# Altium schematic symbol library ON Semi JFETs.SchLib: 93 symbols (part 1 of 2)
Pins are listed as number, name and electrical type; pins without a type are passive.

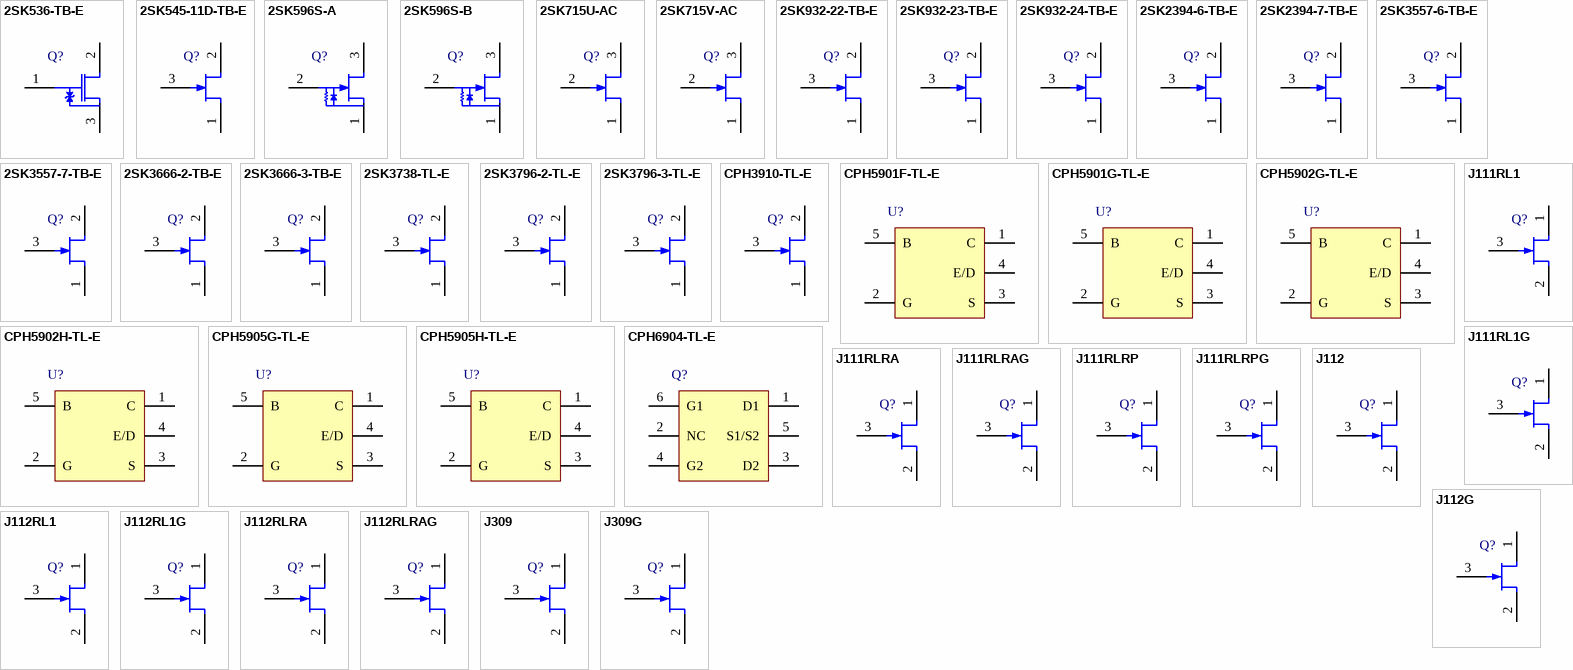
[diagram p0: symbols 2SK536-TB-E to J309G]

## 2SK536-TB-E
designator Q?
N-Channel MOSFET, 50 V, 100 mA, Single, 3-Pin CP, Pb-Free, Tape and Reel; Manufacturer: On Semiconductor; PartNumber: 2SK536-TB-E; Channel Polarity: N Channel; IDSS Max (uA): 1; PackageReference: CP-3-318AN_A; PackageDescription: 3-Pin Small Outline Transistor, Body 2.9 x 1.5 mm, Pitch 0.95 mm; Supplier 1: Digi-Key; Supplier Part Number 1: 869-1110-2-ND; Supplier 2: Digi-Key; Supplier Part Number 2: 869-1110-1-ND; Supplier 3: Digi-Key; Supplier Part Number 3: 869-1110-6-ND; Supplier 4: Newark; Supplier Part Number 4: 60W2041; Supplier 5: Mouser; Supplier Part Number 5: 863-2SK536-TB-E; Packing: Tape and Reel; RoHS: Pb-Free; Mounting Technology: Surface Mount; ComponentLink1Description: Manufacturer URL; ComponentLink1URL: http://www.onsemi.com/; ComponentLink2Description: Datasheet; ComponentLink2URL: http://www.onsemi.com/pub_link/Collateral/EN2550-D.PDF; ComponentLink3Description: Package Specification; ComponentLink3URL: http://www.onsemi.com/pub_link/Collateral/EN6619-D.PDF
footprint ONSC-CP-3-318AN_A_V (SOT23, 3-Leads, Body 2.9x1.5mm, Pitch 0.95mm)
pins: 1 G, 2 D, 3 S

## 2SK545-11D-TB-E
designator Q?
N-Channel JFET, 40 V, 55 to 95 uA, 0.10 mS, 3-Pin CP, Pb-Free, Tape and Reel; Manufacturer: On Semiconductor; PartNumber: 2SK545-11D-TB-E; Channel Polarity: N Channel; IDSS Max (uA): 95; IDSS Min (uA): 55; PackageReference: CP-3-318AN_A; PackageDescription: 3-Pin Small Outline Transistor, Body 2.9 x 1.5 mm, Pitch 0.95 mm; Supplier 1: Digi-Key; Supplier Part Number 1: 2SK545-11D-TB-E-ND; Supplier 2: Newark; Supplier Part Number 2: 07W7727; Supplier 3: Mouser; Supplier Part Number 3: 863-2SK545-11D-TB-E; Packing: Tape and Reel; RoHS: Pb-Free; Mounting Technology: Surface Mount; ComponentLink1Description: Manufacturer URL; ComponentLink1URL: http://www.onsemi.com/; ComponentLink2Description: Datasheet; ComponentLink2URL: http://www.onsemi.com/pub_link/Collateral/EN1789-D.PDF; ComponentLink3Description: Package Specification; ComponentLink3URL: http://www.onsemi.com/pub_link/Collateral/EN6619-D.PDF
footprint ONSC-CP-3-318AN_A_V (SOT23, 3-Leads, Body 2.9x1.5mm, Pitch 0.95mm)
pins: 1 S, 2 D, 3 G

## 2SK596S-A
designator Q?
N-Channel JFET, 20 V, 100 to 170 uA, 1 mS, 3-Pin SPA, Pb-Free, Tape and Reel; Manufacturer: On Semiconductor; PartNumber: 2SK596S-A; Channel Polarity: N Channel; IDSS Max (uA): 170; IDSS Min (uA): 100; PackageVersion: Rev. O, 02/2012; PackageReference: SPA-3-135AC; PackageDescription: 3-Pin Transistor Outline, Body 4 x 2.2 mm, Pitch 1.3 mm; Supplier 1: Newark; Supplier Part Number 1: 60W2042; Supplier 2: Mouser; Supplier Part Number 2: 863-2SK596S-A; Packing: Tape and Reel; RoHS: Pb-Free; Mounting Technology: Through Hole; ComponentLink1Description: Manufacturer URL; ComponentLink1URL: http://www.onsemi.com/; ComponentLink2Description: Datasheet; ComponentLink2URL: http://www.onsemi.com/pub/Collateral/ENA0944-D.PDF; ComponentLink3Description: Package Specification; ComponentLink3URL: http://www.onsemi.com/pub_link/Collateral/135AC.PDF
footprint ONSC-SPA-3-135AC_V (FM, 3-Leads, Body 4x2.2mm, Pitch 1.3mm)
pins: 1 S, 2 G, 3 D

## 2SK596S-B
designator Q?
N-Channel JFET, 20 V, 150 to 240 uA, 1 mS, 3-Pin SPA, Pb-Free, Bulk Bag; Manufacturer: On Semiconductor; PartNumber: 2SK596S-B; Channel Polarity: N Channel; IDSS Max (uA): 240; IDSS Min (uA): 150; PackageVersion: Rev. O, 02/2012; PackageReference: SPA-3-135AC; PackageDescription: 3-Pin Transistor Outline, Body 4 x 2.2 mm, Pitch 1.3 mm; Supplier 1: Digi-Key; Supplier Part Number 1: 2SK596S-B-ND; Supplier 2: Newark; Supplier Part Number 2: 07W7728; Supplier 3: Mouser; Supplier Part Number 3: 863-2SK596S-B; Packing: Bulk Bag; RoHS: Pb-Free; Mounting Technology: Through Hole; ComponentLink1Description: Manufacturer URL; ComponentLink1URL: http://www.onsemi.com/; ComponentLink2Description: Datasheet; ComponentLink2URL: http://www.onsemi.com/pub/Collateral/ENA0944-D.PDF; ComponentLink3Description: Package Specification; ComponentLink3URL: http://www.onsemi.com/pub_link/Collateral/135AC.PDF
footprint ONSC-SPA-3-135AC_V (FM, 3-Leads, Body 4x2.2mm, Pitch 1.3mm)
pins: 1 S, 2 G, 3 D

## 2SK715U-AC
designator Q?
N-Channel JFET, 15 V, 7.3 to 12 mA, 50 mS, 3-Pin SPA, Pb-Free, Fan-Fold; Manufacturer: On Semiconductor; PartNumber: 2SK715U-AC; Channel Polarity: N Channel; IDSS Max (uA): 12000; IDSS Min (uA): 7300; PackageVersion: Rev. O, 02/2012; PackageReference: SPA-3-135AC; PackageDescription: 3-Pin Transistor Outline, Body 4 x 2.2 mm, Pitch 1.3 mm; Supplier 1: Digi-Key; Supplier Part Number 1: 2SK715U-AC-ND; Supplier 2: Mouser; Supplier Part Number 2: 863-2SK715U-AC; Packing: Fan-Fold; RoHS: Pb-Free; Mounting Technology: Through Hole; ComponentLink1Description: Manufacturer URL; ComponentLink1URL: http://www.onsemi.com/; ComponentLink2Description: Datasheet; ComponentLink2URL: http://www.onsemi.com/pub/Collateral/EN2543-D.PDF; ComponentLink3Description: Package Specification; ComponentLink3URL: http://www.onsemi.com/pub_link/Collateral/135AC.PDF
footprint ONSC-SPA-3-135AC_V (FM, 3-Leads, Body 4x2.2mm, Pitch 1.3mm)
pins: 1 S, 2 G, 3 D

## 2SK715V-AC
designator Q?
N-Channel JFET, 15 V, 10 to 17 mA, 50 mS, 3-Pin SPA, Pb-Free, Fan-Fold; Manufacturer: On Semiconductor; PartNumber: 2SK715V-AC; Channel Polarity: N Channel; IDSS Max (uA): 17000; IDSS Min (uA): 10000; PackageVersion: Rev. O, 02/2012; PackageReference: SPA-3-135AC; PackageDescription: 3-Pin Transistor Outline, Body 4 x 2.2 mm, Pitch 1.3 mm; Supplier 1: Digi-Key; Supplier Part Number 1: 2SK715V-AC-ND; Supplier 2: Mouser; Supplier Part Number 2: 863-2SK715V-AC; Packing: Fan-Fold; RoHS: Pb-Free; Mounting Technology: Through Hole; ComponentLink1Description: Manufacturer URL; ComponentLink1URL: http://www.onsemi.com/; ComponentLink2Description: Datasheet; ComponentLink2URL: http://www.onsemi.com/pub/Collateral/EN2543-D.PDF; ComponentLink3Description: Package Specification; ComponentLink3URL: http://www.onsemi.com/pub_link/Collateral/135AC.PDF
footprint ONSC-SPA-3-135AC_V (FM, 3-Leads, Body 4x2.2mm, Pitch 1.3mm)
pins: 1 S, 2 G, 3 D

## 2SK932-22-TB-E
designator Q?
N-Channel JFET, 15 V, 7.3 to 12 mA, 50 mS, 3-Pin CP, Pb-Free, Tape and Reel; Manufacturer: On Semiconductor; PartNumber: 2SK932-22-TB-E; Channel Polarity: N Channel; IDSS Max (uA): 12000; IDSS Min (uA): 7300; PackageReference: CP-3-318AN_A; PackageDescription: 3-Pin Small Outline Transistor, Body 2.9 x 1.5 mm, Pitch 0.95 mm; Supplier 1: Digi-Key; Supplier Part Number 1: 2SK932-22-TB-E-ND; Supplier 2: Mouser; Supplier Part Number 2: 863-2SK932-22-TB-E; Packing: Tape and Reel; RoHS: Pb-Free; Mounting Technology: Surface Mount; ComponentLink1Description: Manufacturer URL; ComponentLink1URL: http://www.onsemi.com/; ComponentLink2Description: Datasheet; ComponentLink2URL: http://www.onsemi.com/pub/Collateral/EN2841-D.PDF; ComponentLink3Description: Package Specification; ComponentLink3URL: http://www.onsemi.com/pub_link/Collateral/EN6619-D.PDF
footprint ONSC-CP-3-318AN_A_V (SOT23, 3-Leads, Body 2.9x1.5mm, Pitch 0.95mm)
pins: 1 S, 2 D, 3 G

## 2SK932-23-TB-E
designator Q?
N-Channel JFET, 15 V, 10 to 17 mA, 50 mS, 3-Pin CP, Pb-Free, Tape and Reel; Manufacturer: On Semiconductor; PartNumber: 2SK932-23-TB-E; Channel Polarity: N Channel; IDSS Max (uA): 17000; IDSS Min (uA): 10000; PackageReference: CP-3-318AN_A; PackageDescription: 3-Pin Small Outline Transistor, Body 2.9 x 1.5 mm, Pitch 0.95 mm; Supplier 1: Digi-Key; Supplier Part Number 1: 2SK932-23-TB-E-ND; Supplier 2: Newark; Supplier Part Number 2: 07W7735; Supplier 3: Mouser; Supplier Part Number 3: 863-2SK932-23-TB-E; Packing: Tape and Reel; RoHS: Pb-Free; Mounting Technology: Surface Mount; ComponentLink1Description: Manufacturer URL; ComponentLink1URL: http://www.onsemi.com/; ComponentLink2Description: Datasheet; ComponentLink2URL: http://www.onsemi.com/pub/Collateral/EN2841-D.PDF; ComponentLink3Description: Package Specification; ComponentLink3URL: http://www.onsemi.com/pub_link/Collateral/EN6619-D.PDF
footprint ONSC-CP-3-318AN_A_V (SOT23, 3-Leads, Body 2.9x1.5mm, Pitch 0.95mm)
pins: 1 S, 2 D, 3 G

## 2SK932-24-TB-E
designator Q?
N-Channel JFET, 15 V, 14.5 to 24 mA, 50 mS, 3-Pin CP, Pb-Free, Tape and Reel; Manufacturer: On Semiconductor; PartNumber: 2SK932-24-TB-E; Channel Polarity: N Channel; IDSS Max (uA): 24000; IDSS Min (uA): 14500; PackageReference: CP-3-318AN_A; PackageDescription: 3-Pin Small Outline Transistor, Body 2.9 x 1.5 mm, Pitch 0.95 mm; Supplier 1: Digi-Key; Supplier Part Number 1: 2SK932-24-TB-E-ND; Supplier 2: Mouser; Supplier Part Number 2: 863-2SK932-24-TB-E; Packing: Tape and Reel; RoHS: Pb-Free; Mounting Technology: Surface Mount; ComponentLink1Description: Manufacturer URL; ComponentLink1URL: http://www.onsemi.com/; ComponentLink2Description: Datasheet; ComponentLink2URL: http://www.onsemi.com/pub/Collateral/EN2841-D.PDF; ComponentLink3Description: Package Specification; ComponentLink3URL: http://www.onsemi.com/pub_link/Collateral/EN6619-D.PDF
footprint ONSC-CP-3-318AN_A_V (SOT23, 3-Leads, Body 2.9x1.5mm, Pitch 0.95mm)
pins: 1 S, 2 D, 3 G

## 2SK2394-6-TB-E
designator Q?
N-Channel JFET, 15 V, 10 to 20 mA, 38 mS, 3-Pin CP, Pb-Free, Tape and Reel; Manufacturer: On Semiconductor; PartNumber: 2SK2394-6-TB-E; Channel Polarity: N Channel; IDSS Max (uA): 20000; IDSS Min (uA): 10000; PackageReference: CP-3-318AN_A; PackageDescription: 3-Pin Small Outline Transistor, Body 2.9 x 1.5 mm, Pitch 0.95 mm; Supplier 1: Digi-Key; Supplier Part Number 1: 2SK2394-6-TB-E-ND; Supplier 2: Mouser; Supplier Part Number 2: 863-2SK2394-6-TB-E; Packing: Tape and Reel; RoHS: Pb-Free; Mounting Technology: Surface Mount; ComponentLink1Description: Manufacturer URL; ComponentLink1URL: http://www.onsemi.com/; ComponentLink2Description: Datasheet; ComponentLink2URL: http://www.onsemi.com/pub_link/Collateral/EN4839-D.PDF; ComponentLink3Description: Package Specification; ComponentLink3URL: http://www.onsemi.com/pub_link/Collateral/EN6619-D.PDF
footprint ONSC-CP-3-318AN_A_V (SOT23, 3-Leads, Body 2.9x1.5mm, Pitch 0.95mm)
pins: 1 S, 2 D, 3 G

## 2SK2394-7-TB-E
designator Q?
N-Channel JFET, 15 V, 16 to 32 mA, 38 mS, 3-Pin CP, Pb-Free, Tape and Reel; Manufacturer: On Semiconductor; PartNumber: 2SK2394-7-TB-E; Channel Polarity: N Channel; IDSS Max (uA): 32000; IDSS Min (uA): 16000; PackageReference: CP-3-318AN_A; PackageDescription: 3-Pin Small Outline Transistor, Body 2.9 x 1.5 mm, Pitch 0.95 mm; Supplier 1: Digi-Key; Supplier Part Number 1: 2SK2394-7-TB-E-ND; Supplier 2: Mouser; Supplier Part Number 2: 863-2SK2394-7-TB-E; Packing: Tape and Reel; RoHS: Pb-Free; Mounting Technology: Surface Mount; ComponentLink1Description: Manufacturer URL; ComponentLink1URL: http://www.onsemi.com/; ComponentLink2Description: Datasheet; ComponentLink2URL: http://www.onsemi.com/pub_link/Collateral/EN4839-D.PDF; ComponentLink3Description: Package Specification; ComponentLink3URL: http://www.onsemi.com/pub_link/Collateral/EN6619-D.PDF
footprint ONSC-CP-3-318AN_A_V (SOT23, 3-Leads, Body 2.9x1.5mm, Pitch 0.95mm)
pins: 1 S, 2 D, 3 G

## 2SK3557-6-TB-E
designator Q?
N-Channel JFET, 15 V, 10 to 20 mA, 35 mS, 3-Pin CP, Pb-Free, Tape and Reel; Manufacturer: On Semiconductor; PartNumber: 2SK3557-6-TB-E; Channel Polarity: N Channel; IDSS Max (uA): 20000; IDSS Min (uA): 10000; PackageReference: CP-3-318AN_A; PackageDescription: 3-Pin Small Outline Transistor, Body 2.9 x 1.5 mm, Pitch 0.95 mm; Supplier 1: Digi-Key; Supplier Part Number 1: 2SK3557-6-TB-EOSTR-ND; Supplier 2: Digi-Key; Supplier Part Number 2: 2SK3557-6-TB-EOSCT-ND; Supplier 3: Digi-Key; Supplier Part Number 3: 2SK3557-6-TB-EOSDKR-ND; Supplier 4: Mouser; Supplier Part Number 4: 863-2SK3557-6-TB-E; Packing: Tape and Reel; RoHS: Pb-Free; Mounting Technology: Surface Mount; ComponentLink1Description: Manufacturer URL; ComponentLink1URL: http://www.onsemi.com/; ComponentLink2Description: Datasheet; ComponentLink2URL: http://www.onsemi.com/pub_link/Collateral/2SK3557-D.PDF; ComponentLink3Description: Package Specification; ComponentLink3URL: http://www.onsemi.com/pub_link/Collateral/EN6619-D.PDF
footprint ONSC-CP-3-318AN_A_V (SOT23, 3-Leads, Body 2.9x1.5mm, Pitch 0.95mm)
pins: 1 S, 2 D, 3 G

## 2SK3557-7-TB-E
designator Q?
N-Channel JFET, 15 V, 16 to 32 mA, 35 mS, 3-Pin CP, Pb-Free, Tape and Reel; Manufacturer: On Semiconductor; PartNumber: 2SK3557-7-TB-E; Channel Polarity: N Channel; IDSS Max (uA): 32000; IDSS Min (uA): 16000; PackageReference: CP-3-318AN_A; PackageDescription: 3-Pin Small Outline Transistor, Body 2.9 x 1.5 mm, Pitch 0.95 mm; Supplier 1: Digi-Key; Supplier Part Number 1: 869-1106-2-ND; Supplier 2: Digi-Key; Supplier Part Number 2: 869-1106-1-ND; Supplier 3: Digi-Key; Supplier Part Number 3: 869-1106-6-ND; Supplier 4: Farnell; Supplier Part Number 4: 2317599; Supplier 5: Newark; Supplier Part Number 5: 52T9100; Supplier 6: Mouser; Supplier Part Number 6: 863-2SK3557-7-TB-E; Packing: Tape and Reel; RoHS: Pb-Free; Mounting Technology: Surface Mount; ComponentLink1Description: Manufacturer URL; ComponentLink1URL: http://www.onsemi.com/; ComponentLink2Description: Datasheet; ComponentLink2URL: http://www.onsemi.com/pub_link/Collateral/2SK3557-D.PDF; ComponentLink3Description: Package Specification; ComponentLink3URL: http://www.onsemi.com/pub_link/Collateral/EN6619-D.PDF
footprint ONSC-CP-3-318AN_A_V (SOT23, 3-Leads, Body 2.9x1.5mm, Pitch 0.95mm)
pins: 1 S, 2 D, 3 G

## 2SK3666-2-TB-E
designator Q?
N-Channel JFET, 30 V, 0.6 to 1.5 mA, 6.5 mS, 3-Pin CP, Pb-Free, Tape and Reel; Manufacturer: On Semiconductor; PartNumber: 2SK3666-2-TB-E; Channel Polarity: N Channel; IDSS Max (uA): 1500; IDSS Min (uA): 600; PackageReference: CP-3-318AN_A; PackageDescription: 3-Pin Small Outline Transistor, Body 2.9 x 1.5 mm, Pitch 0.95 mm; Supplier 1: Digi-Key; Supplier Part Number 1: 2SK3666-2-TB-E-ND; Supplier 2: Mouser; Supplier Part Number 2: 863-2SK3666-2-TB-E; Packing: Tape and Reel; RoHS: Pb-Free; Mounting Technology: Surface Mount; ComponentLink1Description: Manufacturer URL; ComponentLink1URL: http://www.onsemi.com/; ComponentLink2Description: Datasheet; ComponentLink2URL: http://www.onsemi.com/pub_link/Collateral/2SK3666-D.PDF; ComponentLink3Description: Package Specification; ComponentLink3URL: http://www.onsemi.com/pub_link/Collateral/EN6619-D.PDF
footprint ONSC-CP-3-318AN_A_V (SOT23, 3-Leads, Body 2.9x1.5mm, Pitch 0.95mm)
pins: 1 S, 2 D, 3 G

## 2SK3666-3-TB-E
designator Q?
N-Channel JFET, 30 V, 1.2 to 3 mA, 6.5 mS, 3-Pin CP, Pb-Free, Tape and Reel; Manufacturer: On Semiconductor; PartNumber: 2SK3666-3-TB-E; Channel Polarity: N Channel; IDSS Max (uA): 3000; IDSS Min (uA): 1200; PackageReference: CP-3-318AN_A; PackageDescription: 3-Pin Small Outline Transistor, Body 2.9 x 1.5 mm, Pitch 0.95 mm; Supplier 1: Digi-Key; Supplier Part Number 1: 869-1107-2-ND; Supplier 2: Digi-Key; Supplier Part Number 2: 869-1107-1-ND; Supplier 3: Digi-Key; Supplier Part Number 3: 869-1107-6-ND; Supplier 4: Newark; Supplier Part Number 4: 52T9102; Supplier 5: Mouser; Supplier Part Number 5: 863-2SK3666-3-TB-E; Packing: Tape and Reel; RoHS: Pb-Free; Mounting Technology: Surface Mount; ComponentLink1Description: Manufacturer URL; ComponentLink1URL: http://www.onsemi.com/; ComponentLink2Description: Datasheet; ComponentLink2URL: http://www.onsemi.com/pub_link/Collateral/2SK3666-D.PDF; ComponentLink3Description: Package Specification; ComponentLink3URL: http://www.onsemi.com/pub_link/Collateral/EN6619-D.PDF
footprint ONSC-CP-3-318AN_A_V (SOT23, 3-Leads, Body 2.9x1.5mm, Pitch 0.95mm)
pins: 1 S, 2 D, 3 G

## 2SK3738-TL-E
designator Q?
N-Channel JFET, 40 V, 50 to 130 uA, 0.13 mS, 3-Pin SMCP, Pb-Free, Tape and Reel; Manufacturer: On Semiconductor; PartNumber: 2SK3738-TL-E; Channel Polarity: N Channel; IDSS Max (uA): 130; IDSS Min (uA): 50; PackageReference: SMCP-3; PackageDescription: 3-Pin Small Outline Transistor, Body 1.6 x 0.8 mm, Pitch 0.5 mm; Supplier 1: Newark; Supplier Part Number 1: 60W2035; Supplier 2: Mouser; Supplier Part Number 2: 863-2SK3738-TL-E; Packing: Tape and Reel; RoHS: Pb-Free; Mounting Technology: Surface Mount; ComponentLink1Description: Manufacturer URL; ComponentLink1URL: http://www.onsemi.com/; ComponentLink2Description: Datasheet; ComponentLink2URL: http://www.onsemi.com/pub_link/Collateral/EN7671-D.PDF; ComponentLink3Description: Package Specification; ComponentLink3URL: http://www.onsemi.com/pub_link/Collateral/3LN01S-D.PDF
footprint ONSC-SMCP-3_V (SOT23, 3-Leads, Body 1.6x0.8mm, Pitch 0.5mm)
pins: 1 S, 2 D, 3 G

## 2SK3796-2-TL-E
designator Q?
N-Channel JFET, 30 V, 0.6 to 1.5 mA, 6.5 mS, 3-Pin SMCP, Pb-Free, Tape and Reel; Manufacturer: On Semiconductor; PartNumber: 2SK3796-2-TL-E; Channel Polarity: N Channel; IDSS Max (uA): 1500; IDSS Min (uA): 600; PackageReference: SMCP-3; PackageDescription: 3-Pin Small Outline Transistor, Body 1.6 x 0.8 mm, Pitch 0.5 mm; Supplier 1: Digi-Key; Supplier Part Number 1: 2SK3796-2-TL-E-ND; Supplier 2: Mouser; Supplier Part Number 2: 863-2SK3796-2-TL-E; Packing: Tape and Reel; RoHS: Pb-Free; Mounting Technology: Surface Mount; ComponentLink1Description: Manufacturer URL; ComponentLink1URL: http://www.onsemi.com/; ComponentLink2Description: Datasheet; ComponentLink2URL: http://www.onsemi.com/pub_link/Collateral/2SK3796-D.PDF; ComponentLink3Description: Package Specification; ComponentLink3URL: http://www.onsemi.com/pub_link/Collateral/3LN01S-D.PDF
footprint ONSC-SMCP-3_V (SOT23, 3-Leads, Body 1.6x0.8mm, Pitch 0.5mm)
pins: 1 S, 2 D, 3 G

## 2SK3796-3-TL-E
designator Q?
N-Channel JFET, 30 V, 1.2 to 3 mA, 6.5 mS, 3-Pin SMCP, Pb-Free, Tape and Reel; Manufacturer: On Semiconductor; PartNumber: 2SK3796-3-TL-E; Channel Polarity: N Channel; IDSS Max (uA): 3000; IDSS Min (uA): 1200; PackageReference: SMCP-3; PackageDescription: 3-Pin Small Outline Transistor, Body 1.6 x 0.8 mm, Pitch 0.5 mm; Supplier 1: Digi-Key; Supplier Part Number 1: 2SK3796-3-TL-E-ND; Supplier 2: Mouser; Supplier Part Number 2: 863-2SK3796-3-TL-E; Packing: Tape and Reel; RoHS: Pb-Free; Mounting Technology: Surface Mount; ComponentLink1Description: Manufacturer URL; ComponentLink1URL: http://www.onsemi.com/; ComponentLink2Description: Datasheet; ComponentLink2URL: http://www.onsemi.com/pub_link/Collateral/2SK3796-D.PDF; ComponentLink3Description: Package Specification; ComponentLink3URL: http://www.onsemi.com/pub_link/Collateral/3LN01S-D.PDF
footprint ONSC-SMCP-3_V (SOT23, 3-Leads, Body 1.6x0.8mm, Pitch 0.5mm)
pins: 1 S, 2 D, 3 G

## CPH3910-TL-E
designator Q?
N-Channel JFET, 25 V, 20 to 40 mA, 40 mS, 3-Pin CPH, Pb-Free, Tape and Reel; Manufacturer: On Semiconductor; PartNumber: CPH3910-TL-E; Channel Polarity: N Channel; IDSS Max (uA): 40000; IDSS Min (uA): 20000; PackageReference: CPH-3; PackageDescription: 3-Pin Small Outline Transistor, Body 2.9 x 1.6 mm, Pitch 0.95 mm; Supplier 1: Newark; Supplier Part Number 1: 56W5196; Supplier 2: Mouser; Supplier Part Number 2: 863-CPH3910-TL-E; Packing: Tape and Reel; RoHS: Pb-Free; Mounting Technology: Surface Mount; ComponentLink1Description: Manufacturer URL; ComponentLink1URL: http://www.onsemi.com/; ComponentLink2Description: Datasheet; ComponentLink2URL: http://www.onsemi.com/pub_link/Collateral/ENA1965-D.PDF; ComponentLink3Description: Package Specification; ComponentLink3URL: http://www.onsemi.com/pub_link/Collateral/50A02CH-D.PDF
footprint ONSC-CPH-3_V (SOT23, 3-Leads, Body 2.9x1.6mm, Pitch 0.95mm)
pins: 1 S, 2 D, 3 G

## CPH5901F-TL-E
designator U?
N-Channel JFET and NPN Bipolar Transistor, 15 V, 7.3 to 12 mA, 50 V, 150 mA, Composite Type, 5-Pin CPH, Pb-Free, Tape and Reel; Manufacturer: On Semiconductor; PartNumber: CPH5901F-TL-E; Channel Polarity: N Channel & NPN; IDSS Max (uA): 12000; IDSS Min (uA): 6000; PackageReference: CPH-5; PackageDescription: 5-Pin Small Outline Transistor, Body 2.9 x 1.6 mm, Pitch 0.95 mm; Supplier 1: Digi-Key; Supplier Part Number 1: CPH5901F-TL-E-ND; Supplier 2: Mouser; Supplier Part Number 2: 863-CPH5901F-TL-E; Packing: Tape and Reel; RoHS: Pb-Free; Mounting Technology: Surface Mount; ComponentLink1Description: Manufacturer URL; ComponentLink1URL: http://www.onsemi.com/; ComponentLink2Description: Datasheet; ComponentLink2URL: http://www.onsemi.com/pub_link/Collateral/CPH5901-D.PDF; ComponentLink3Description: Package Specification; ComponentLink3URL: http://www.onsemi.com/pub_link/Collateral/CPH5504-D.PDF
footprint ONSC-CPH-5_V (SOT23, 5-Leads, Body 2.9x1.6mm, Pitch 0.95mm)
pins: 1 C, 2 G, 3 S, 4 E/D, 5 B

## CPH5901G-TL-E
designator U?
N-Channel JFET and NPN Bipolar Transistor, 15 V, 10 to 20 mA, 50 V, 150 mA, Composite Type, 5-Pin CPH, Pb-Free, Tape and Reel; Manufacturer: On Semiconductor; PartNumber: CPH5901G-TL-E; Channel Polarity: N Channel & NPN; IDSS Max (uA): 20000; IDSS Min (uA): 10000; PackageReference: CPH-5; PackageDescription: 5-Pin Small Outline Transistor, Body 2.9 x 1.6 mm, Pitch 0.95 mm; Supplier 1: Digi-Key; Supplier Part Number 1: CPH5901G-TL-E-ND; Supplier 2: Mouser; Supplier Part Number 2: 863-CPH5901G-TL-E; Packing: Tape and Reel; RoHS: Pb-Free; Mounting Technology: Surface Mount; ComponentLink1Description: Manufacturer URL; ComponentLink1URL: http://www.onsemi.com/; ComponentLink2Description: Datasheet; ComponentLink2URL: http://www.onsemi.com/pub_link/Collateral/CPH5901-D.PDF; ComponentLink3Description: Package Specification; ComponentLink3URL: http://www.onsemi.com/pub_link/Collateral/CPH5504-D.PDF
footprint ONSC-CPH-5_V (SOT23, 5-Leads, Body 2.9x1.6mm, Pitch 0.95mm)
pins: 1 C, 2 G, 3 S, 4 E/D, 5 B

## CPH5902G-TL-E
designator U?
N-Channel JFET and NPN Bipolar Transistor, 15 V, 10 to 20 mA, 50 V, 150 mA, Composite Type, 5-Pin CPH, Pb-Free, Tape and Reel; Manufacturer: On Semiconductor; PartNumber: CPH5902G-TL-E; Channel Polarity: N Channel & NPN; IDSS Max (uA): 20000; IDSS Min (uA): 10000; PackageReference: CPH-5; PackageDescription: 5-Pin Small Outline Transistor, Body 2.9 x 1.6 mm, Pitch 0.95 mm; Supplier 1: Digi-Key; Supplier Part Number 1: CPH5902G-TL-E-ND; Supplier 2: Mouser; Supplier Part Number 2: 863-CPH5902G-TL-E; Packing: Tape and Reel; RoHS: Pb-Free; Mounting Technology: Surface Mount; ComponentLink1Description: Manufacturer URL; ComponentLink1URL: http://www.onsemi.com/; ComponentLink2Description: Datasheet; ComponentLink2URL: http://www.onsemi.com/pub_link/Collateral/CPH5902-D.PDF; ComponentLink3Description: Package Specification; ComponentLink3URL: http://www.onsemi.com/pub_link/Collateral/CPH5504-D.PDF
footprint ONSC-CPH-5_V (SOT23, 5-Leads, Body 2.9x1.6mm, Pitch 0.95mm)
pins: 1 C, 2 G, 3 S, 4 E/D, 5 B

## CPH5902H-TL-E
designator U?
N-Channel JFET and NPN Bipolar Transistor, 15 V, 16 to 32 mA, 50 V, 150 mA, Composite Type, 5-Pin CPH, Pb-Free, Tape and Reel; Manufacturer: On Semiconductor; PartNumber: CPH5902H-TL-E; Channel Polarity: N Channel & NPN; IDSS Max (uA): 32000; IDSS Min (uA): 16000; PackageReference: CPH-5; PackageDescription: 5-Pin Small Outline Transistor, Body 2.9 x 1.6 mm, Pitch 0.95 mm; Supplier 1: Digi-Key; Supplier Part Number 1: CPH5902H-TL-E-ND; Supplier 2: Mouser; Supplier Part Number 2: 863-CPH5902H-TL-E; Packing: Tape and Reel; RoHS: Pb-Free; Mounting Technology: Surface Mount; ComponentLink1Description: Manufacturer URL; ComponentLink1URL: http://www.onsemi.com/; ComponentLink2Description: Datasheet; ComponentLink2URL: http://www.onsemi.com/pub_link/Collateral/CPH5902-D.PDF; ComponentLink3Description: Package Specification; ComponentLink3URL: http://www.onsemi.com/pub_link/Collateral/CPH5504-D.PDF
footprint ONSC-CPH-5_V (SOT23, 5-Leads, Body 2.9x1.6mm, Pitch 0.95mm)
pins: 1 C, 2 G, 3 S, 4 E/D, 5 B

## CPH5905G-TL-E
designator U?
N-Channel JFET and NPN Bipolar Transistor, 15 V, 10 to 20 mA, 50 V, 150 mA, Composite Type, 5-Pin CPH, Pb-Free, Tape and Reel; Manufacturer: On Semiconductor; PartNumber: CPH5905G-TL-E; Channel Polarity: N Channel & NPN; IDSS Max (uA): 20000; IDSS Min (uA): 10000; PackageReference: CPH-5; PackageDescription: 5-Pin Small Outline Transistor, Body 2.9 x 1.6 mm, Pitch 0.95 mm; Supplier 1: Digi-Key; Supplier Part Number 1: 869-1135-2-ND; Supplier 2: Digi-Key; Supplier Part Number 2: 869-1135-1-ND; Supplier 3: Digi-Key; Supplier Part Number 3: 869-1135-6-ND; Supplier 4: Mouser; Supplier Part Number 4: 863-CPH5905G-TL-E; Packing: Tape and Reel; RoHS: Pb-Free; Mounting Technology: Surface Mount; ComponentLink1Description: Manufacturer URL; ComponentLink1URL: http://www.onsemi.com/; ComponentLink2Description: Datasheet; ComponentLink2URL: http://www.onsemi.com/pub_link/Collateral/CPH5905-D.PDF; ComponentLink3Description: Package Specification; ComponentLink3URL: http://www.onsemi.com/pub_link/Collateral/CPH5504-D.PDF
footprint ONSC-CPH-5_V (SOT23, 5-Leads, Body 2.9x1.6mm, Pitch 0.95mm)
pins: 1 C, 2 G, 3 S, 4 E/D, 5 B

## CPH5905H-TL-E
designator U?
N-Channel JFET and NPN Bipolar Transistor, 15 V, 16 to 32 mA, 50 V, 150 mA, Composite Type, 5-Pin CPH, Pb-Free, Tape and Reel; Manufacturer: On Semiconductor; PartNumber: CPH5905H-TL-E; Channel Polarity: N Channel & NPN; IDSS Max (uA): 32000; IDSS Min (uA): 16000; PackageReference: CPH-5; PackageDescription: 5-Pin Small Outline Transistor, Body 2.9 x 1.6 mm, Pitch 0.95 mm; Supplier 1: Digi-Key; Supplier Part Number 1: CPH5905H-TL-E-ND; Supplier 2: Mouser; Supplier Part Number 2: 863-CPH5905H-TL-E; Packing: Tape and Reel; RoHS: Pb-Free; Mounting Technology: Surface Mount; ComponentLink1Description: Manufacturer URL; ComponentLink1URL: http://www.onsemi.com/; ComponentLink2Description: Datasheet; ComponentLink2URL: http://www.onsemi.com/pub_link/Collateral/CPH5905-D.PDF; ComponentLink3Description: Package Specification; ComponentLink3URL: http://www.onsemi.com/pub_link/Collateral/CPH5504-D.PDF
footprint ONSC-CPH-5_V (SOT23, 5-Leads, Body 2.9x1.6mm, Pitch 0.95mm)
pins: 1 C, 2 G, 3 S, 4 E/D, 5 B

## CPH6904-TL-E
designator Q?
N-Channel JFET, 25 V, 20 to 40 mA, 40 mS, Dual, 6-Pin CPH, Pb-Free, Tape and Reel; Manufacturer: On Semiconductor; PartNumber: CPH6904-TL-E; Channel Polarity: N Channel; IDSS Max (uA): 40000; IDSS Min (uA): 20000; PackageReference: CPH-6; PackageDescription: 6-Pin Small Outline Transistor, Body 2.9 x 1.6 mm, Pitch 0.95 mm; Supplier 1: Digi-Key; Supplier Part Number 1: CPH6904-TL-E-ND; Supplier 2: Newark; Supplier Part Number 2: 07W6759; Supplier 3: Mouser; Supplier Part Number 3: 863-CPH6904-TL-E; Packing: Tape and Reel; RoHS: Pb-Free; Mounting Technology: Surface Mount; ComponentLink1Description: Manufacturer URL; ComponentLink1URL: http://www.onsemi.com/; ComponentLink2Description: Datasheet; ComponentLink2URL: http://www.onsemi.com/pub/Collateral/ENA1966-D.PDF; ComponentLink3Description: Package Specification; ComponentLink3URL: http://www.onsemi.com/pub_link/Collateral/CPH6001A-D.PDF
footprint ONSC-CPH-6_V (SOT23, 6-Leads, Body 2.9x1.6mm, Pitch 0.95mm)
pins: 1 D1, 2 NC, 3 D2, 4 G2, 5 S1/S2, 6 G1

## J111RL1
designator Q?
JFET Chopper Transistor, N-Channel - Depletion, 3-Pin TO-92, Tape and Reel; Manufacturer: On Semiconductor; PartNumber: J111RL1; Channel Polarity: N Channel; IDSS Min (uA): 20000; V(BR)GSS Min (V): 35; DatasheetVersion: Rev. 2; PackageVersion: Rev. AM; PackageReference: TO-92-3-29-11_AM_SL; PackageDescription: 3-Pin Transistor Outline, Body 4.825 x 3.685 mm, Pitch 1.27 mm; Supplier 1: Mouser; Supplier Part Number 1: 863-J111RL1; Packing: Tape and Reel; Mounting Technology: Through Hole; ComponentLink1Description: Manufacturer URL; ComponentLink1URL: http://www.onsemi.com/; ComponentLink2Description: Datasheet; ComponentLink2URL: http://www.onsemi.com/pub_link/Collateral/J111-D.PDF; ComponentLink3Description: Package Specification; ComponentLink3URL: http://www.onsemi.cn/pub_link/Collateral/2N6426-D.PDF
footprint ONSC-TO-92-3-29-11 (TO, 3-Leads, Body Dia 4.7mm, Pitch 1.27mm)
pins: 1 D, 2 S, 3 G

## J111RL1G
designator Q?
JFET Chopper Transistor, N-Channel - Depletion, 3-Pin TO-92, Pb-Free, Tape and Reel; Manufacturer: On Semiconductor; PartNumber: J111RL1G; Channel Polarity: N Channel; IDSS Min (uA): 20000; V(BR)GSS Min (V): 35; DatasheetVersion: Rev. 2; PackageVersion: Rev. AM; PackageReference: TO-92-3-29-11_AM_SL; PackageDescription: 3-Pin Transistor Outline, Body 4.825 x 3.685 mm, Pitch 1.27 mm; Supplier 1: Digi-Key; Supplier Part Number 1: J111RL1G-ND; Supplier 2: Mouser; Supplier Part Number 2: 863-J111RL1G; Packing: Tape and Reel; RoHS: Pb-Free; Mounting Technology: Through Hole; ComponentLink1Description: Manufacturer URL; ComponentLink1URL: http://www.onsemi.com/; ComponentLink2Description: Datasheet; ComponentLink2URL: http://www.onsemi.com/pub_link/Collateral/J111-D.PDF; ComponentLink3Description: Package Specification; ComponentLink3URL: http://www.onsemi.cn/pub_link/Collateral/2N6426-D.PDF
footprint ONSC-TO-92-3-29-11 (TO, 3-Leads, Body Dia 4.7mm, Pitch 1.27mm)
pins: 1 D, 2 S, 3 G

## J111RLRA
designator Q?
JFET Chopper Transistor, N-Channel - Depletion, 3-Pin TO-92, Tape and Reel; Manufacturer: On Semiconductor; PartNumber: J111RLRA; Channel Polarity: N Channel; IDSS Min (uA): 20000; V(BR)GSS Min (V): 35; DatasheetVersion: Rev. 2; PackageVersion: Rev. AM; PackageReference: TO-92-3-29-11_AM_SL; PackageDescription: 3-Pin Transistor Outline, Body 4.825 x 3.685 mm, Pitch 1.27 mm; Supplier 1: Mouser; Supplier Part Number 1: 863-J111RLRA; Packing: Tape and Reel; Mounting Technology: Through Hole; ComponentLink1Description: Manufacturer URL; ComponentLink1URL: http://www.onsemi.com/; ComponentLink2Description: Datasheet; ComponentLink2URL: http://www.onsemi.com/pub_link/Collateral/J111-D.PDF; ComponentLink3Description: Package Specification; ComponentLink3URL: http://www.onsemi.cn/pub_link/Collateral/2N6426-D.PDF
footprint ONSC-TO-92-3-29-11 (TO, 3-Leads, Body Dia 4.7mm, Pitch 1.27mm)
pins: 1 D, 2 S, 3 G

## J111RLRAG
designator Q?
JFET Chopper Transistor, N-Channel - Depletion, 3-Pin TO-92, Pb-Free, Tape and Reel; Manufacturer: On Semiconductor; PartNumber: J111RLRAG; Channel Polarity: N Channel; IDSS Min (uA): 20000; V(BR)GSS Min (V): 35; DatasheetVersion: Rev. 2; PackageVersion: Rev. AM; PackageReference: TO-92-3-29-11_AM_SL; PackageDescription: 3-Pin Transistor Outline, Body 4.825 x 3.685 mm, Pitch 1.27 mm; Supplier 1: Digi-Key; Supplier Part Number 1: J111RLRAG-ND; Supplier 2: Mouser; Supplier Part Number 2: 863-J111RLRAG; Packing: Tape and Reel; RoHS: Pb-Free; Mounting Technology: Through Hole; ComponentLink1Description: Manufacturer URL; ComponentLink1URL: http://www.onsemi.com/; ComponentLink2Description: Datasheet; ComponentLink2URL: http://www.onsemi.com/pub_link/Collateral/J111-D.PDF; ComponentLink3Description: Package Specification; ComponentLink3URL: http://www.onsemi.cn/pub_link/Collateral/2N6426-D.PDF
footprint ONSC-TO-92-3-29-11 (TO, 3-Leads, Body Dia 4.7mm, Pitch 1.27mm)
pins: 1 D, 2 S, 3 G

## J111RLRP
designator Q?
JFET Chopper Transistor, N-Channel - Depletion, 3-Pin TO-92, Tape and Reel; Manufacturer: On Semiconductor; PartNumber: J111RLRP; Channel Polarity: N Channel; IDSS Min (uA): 20000; V(BR)GSS Min (V): 35; DatasheetVersion: Rev. 2; PackageVersion: Rev. AM; PackageReference: TO-92-3-29-11_AM_SL; PackageDescription: 3-Pin Transistor Outline, Body 4.825 x 3.685 mm, Pitch 1.27 mm; Supplier 1: Mouser; Supplier Part Number 1: 863-J111RLRP; Packing: Tape and Reel; Mounting Technology: Through Hole; ComponentLink1Description: Manufacturer URL; ComponentLink1URL: http://www.onsemi.com/; ComponentLink2Description: Datasheet; ComponentLink2URL: http://www.onsemi.com/pub_link/Collateral/J111-D.PDF; ComponentLink3Description: Package Specification; ComponentLink3URL: http://www.onsemi.cn/pub_link/Collateral/2N6426-D.PDF
footprint ONSC-TO-92-3-29-11 (TO, 3-Leads, Body Dia 4.7mm, Pitch 1.27mm)
pins: 1 D, 2 S, 3 G

## J111RLRPG
designator Q?
JFET Chopper Transistor, N-Channel - Depletion, 3-Pin TO-92, Pb-Free, Tape and Reel; Manufacturer: On Semiconductor; PartNumber: J111RLRPG; Channel Polarity: N Channel; IDSS Min (uA): 20000; V(BR)GSS Min (V): 35; DatasheetVersion: Rev. 2; PackageVersion: Rev. AM; PackageReference: TO-92-3-29-11_AM_SL; PackageDescription: 3-Pin Transistor Outline, Body 4.825 x 3.685 mm, Pitch 1.27 mm; Supplier 1: Digi-Key; Supplier Part Number 1: J111RLRPG-ND; Supplier 2: Mouser; Supplier Part Number 2: 863-J111RLRPG; Packing: Tape and Reel; RoHS: Pb-Free; Mounting Technology: Through Hole; ComponentLink1Description: Manufacturer URL; ComponentLink1URL: http://www.onsemi.com/; ComponentLink2Description: Datasheet; ComponentLink2URL: http://www.onsemi.com/pub_link/Collateral/J111-D.PDF; ComponentLink3Description: Package Specification; ComponentLink3URL: http://www.onsemi.cn/pub_link/Collateral/2N6426-D.PDF
footprint ONSC-TO-92-3-29-11 (TO, 3-Leads, Body Dia 4.7mm, Pitch 1.27mm)
pins: 1 D, 2 S, 3 G

## J112
designator Q?
JFET Chopper Transistor, N-Channel - Depletion, 3-Pin TO-92, Bulk Box; Manufacturer: On Semiconductor; PartNumber: J112; Channel Polarity: N Channel; V(BR)GSS Min (V): 35; DatasheetVersion: Rev. 2; PackageVersion: Rev. AM; PackageReference: TO-92-3-29-11_AM_SL; PackageDescription: 3-Pin Transistor Outline, Body 4.825 x 3.685 mm, Pitch 1.27 mm; Packing: Bulk Box; Mounting Technology: Through Hole; ComponentLink1Description: Manufacturer URL; ComponentLink1URL: http://www.onsemi.com/; ComponentLink2Description: Datasheet; ComponentLink2URL: http://www.onsemi.com/pub_link/Collateral/J111-D.PDF; ComponentLink3Description: Package Specification; ComponentLink3URL: http://www.onsemi.cn/pub_link/Collateral/2N6426-D.PDF
footprint ONSC-TO-92-3-29-11 (TO, 3-Leads, Body Dia 4.7mm, Pitch 1.27mm)
pins: 1 D, 2 S, 3 G

## J112G
designator Q?
JFET Chopper Transistor, N-Channel - Depletion, 3-Pin TO-92, Pb-Free, Bulk Box; Manufacturer: On Semiconductor; PartNumber: J112G; Channel Polarity: N Channel; V(BR)GSS Min (V): 35; DatasheetVersion: Rev. 2; PackageVersion: Rev. AM; PackageReference: TO-92-3-29-11_AM_SL; PackageDescription: 3-Pin Transistor Outline, Body 4.825 x 3.685 mm, Pitch 1.27 mm; Supplier 1: Digi-Key; Supplier Part Number 1: J112GOS-ND; Supplier 2: Newark; Supplier Part Number 2: 26K3591; Supplier 3: Mouser; Supplier Part Number 3: 863-J112G; Packing: Bulk Box; RoHS: Pb-Free; Mounting Technology: Through Hole; ComponentLink1Description: Manufacturer URL; ComponentLink1URL: http://www.onsemi.com/; ComponentLink2Description: Datasheet; ComponentLink2URL: http://www.onsemi.com/pub_link/Collateral/J111-D.PDF; ComponentLink3Description: Package Specification; ComponentLink3URL: http://www.onsemi.cn/pub_link/Collateral/2N6426-D.PDF
footprint ONSC-TO-92-3-29-11 (TO, 3-Leads, Body Dia 4.7mm, Pitch 1.27mm)
pins: 1 D, 2 S, 3 G

## J112RL1
designator Q?
JFET Chopper Transistor, N-Channel - Depletion, 3-Pin TO-92, Tape and Reel; Manufacturer: On Semiconductor; PartNumber: J112RL1; Channel Polarity: N Channel; V(BR)GSS Min (V): 35; DatasheetVersion: Rev. 2; PackageVersion: Rev. AM; PackageReference: TO-92-3-29-11_AM_SL; PackageDescription: 3-Pin Transistor Outline, Body 4.825 x 3.685 mm, Pitch 1.27 mm; Supplier 1: Digi-Key; Supplier Part Number 1: J112RL1-ND; Supplier 2: Mouser; Supplier Part Number 2: 863-J112RL1; Packing: Tape and Reel; Mounting Technology: Through Hole; ComponentLink1Description: Manufacturer URL; ComponentLink1URL: http://www.onsemi.com/; ComponentLink2Description: Datasheet; ComponentLink2URL: http://www.onsemi.com/pub_link/Collateral/J111-D.PDF; ComponentLink3Description: Package Specification; ComponentLink3URL: http://www.onsemi.cn/pub_link/Collateral/2N6426-D.PDF
footprint ONSC-TO-92-3-29-11 (TO, 3-Leads, Body Dia 4.7mm, Pitch 1.27mm)
pins: 1 D, 2 S, 3 G

## J112RL1G
designator Q?
JFET Chopper Transistor, N-Channel - Depletion, 3-Pin TO-92, Pb-Free, Tape and Reel; Manufacturer: On Semiconductor; PartNumber: J112RL1G; Channel Polarity: N Channel; V(BR)GSS Min (V): 35; DatasheetVersion: Rev. 2; PackageVersion: Rev. AM; PackageReference: TO-92-3-29-11_AM_SL; PackageDescription: 3-Pin Transistor Outline, Body 4.825 x 3.685 mm, Pitch 1.27 mm; Supplier 1: Digi-Key; Supplier Part Number 1: J112RL1G-ND; Supplier 2: Mouser; Supplier Part Number 2: 863-J112RL1G; Packing: Tape and Reel; RoHS: Pb-Free; Mounting Technology: Through Hole; ComponentLink1Description: Manufacturer URL; ComponentLink1URL: http://www.onsemi.com/; ComponentLink2Description: Datasheet; ComponentLink2URL: http://www.onsemi.com/pub_link/Collateral/J111-D.PDF; ComponentLink3Description: Package Specification; ComponentLink3URL: http://www.onsemi.cn/pub_link/Collateral/2N6426-D.PDF
footprint ONSC-TO-92-3-29-11 (TO, 3-Leads, Body Dia 4.7mm, Pitch 1.27mm)
pins: 1 D, 2 S, 3 G

## J112RLRA
designator Q?
JFET Chopper Transistor, N-Channel - Depletion, 3-Pin TO-92, Tape and Reel; Manufacturer: On Semiconductor; PartNumber: J112RLRA; Channel Polarity: N Channel; V(BR)GSS Min (V): 35; DatasheetVersion: Rev. 2; PackageVersion: Rev. AM; PackageReference: TO-92-3-29-11_AM_SL; PackageDescription: 3-Pin Transistor Outline, Body 4.825 x 3.685 mm, Pitch 1.27 mm; Supplier 1: Digi-Key; Supplier Part Number 1: J112RLRA-ND; Packing: Tape and Reel; Mounting Technology: Through Hole; ComponentLink1Description: Manufacturer URL; ComponentLink1URL: http://www.onsemi.com/; ComponentLink2Description: Datasheet; ComponentLink2URL: http://www.onsemi.com/pub_link/Collateral/J111-D.PDF; ComponentLink3Description: Package Specification; ComponentLink3URL: http://www.onsemi.cn/pub_link/Collateral/2N6426-D.PDF
footprint ONSC-TO-92-3-29-11 (TO, 3-Leads, Body Dia 4.7mm, Pitch 1.27mm)
pins: 1 D, 2 S, 3 G

## J112RLRAG
designator Q?
JFET Chopper Transistor, N-Channel - Depletion, 3-Pin TO-92, Pb-Free, Tape and Reel; Manufacturer: On Semiconductor; PartNumber: J112RLRAG; Channel Polarity: N Channel; V(BR)GSS Min (V): 35; DatasheetVersion: Rev. 2; PackageVersion: Rev. AM; PackageReference: TO-92-3-29-11_AM_SL; PackageDescription: 3-Pin Transistor Outline, Body 4.825 x 3.685 mm, Pitch 1.27 mm; Supplier 1: Digi-Key; Supplier Part Number 1: J112RLRAGOSTR-ND; Supplier 2: Digi-Key; Supplier Part Number 2: J112RLRAGOSCT-ND; Supplier 3: Newark; Supplier Part Number 3: 41K9829; Supplier 4: Mouser; Supplier Part Number 4: 863-J112RLRAG; Packing: Tape and Reel; RoHS: Pb-Free; Mounting Technology: Through Hole; ComponentLink1Description: Manufacturer URL; ComponentLink1URL: http://www.onsemi.com/; ComponentLink2Description: Datasheet; ComponentLink2URL: http://www.onsemi.com/pub_link/Collateral/J111-D.PDF; ComponentLink3Description: Package Specification; ComponentLink3URL: http://www.onsemi.cn/pub_link/Collateral/2N6426-D.PDF
footprint ONSC-TO-92-3-29-11 (TO, 3-Leads, Body Dia 4.7mm, Pitch 1.27mm)
pins: 1 D, 2 S, 3 G

## J309
designator Q?
JFET VHF / UHF Amplifier, N-Channel - Depletion, 3-Pin TO-92, Bulk Box; Manufacturer: On Semiconductor; PartNumber: J309; Channel Polarity: N Channel; IDSS Max (uA): 30000; IDSS Min (uA): 12000; V(BR)GSS Min (V): 25; DatasheetVersion: Rev. 1; PackageVersion: Rev. AM; PackageReference: TO-92-3-29-11_AM_SL; PackageDescription: 3-Pin Transistor Outline, Body 4.825 x 3.685 mm, Pitch 1.27 mm; Supplier 1: Digi-Key; Supplier Part Number 1: J309OS-ND; Packing: Bulk Box; Mounting Technology: Through Hole; ComponentLink1Description: Manufacturer URL; ComponentLink1URL: http://www.onsemi.com/; ComponentLink2Description: Datasheet; ComponentLink2URL: http://www.onsemi.com/pub_link/Collateral/J309-D.PDF; ComponentLink3Description: Package Specification; ComponentLink3URL: http://www.onsemi.cn/pub_link/Collateral/2N6426-D.PDF
footprint ONSC-TO-92-3-29-11 (TO, 3-Leads, Body Dia 4.7mm, Pitch 1.27mm)
pins: 1 D, 2 S, 3 G

## J309G
designator Q?
JFET VHF / UHF Amplifier, N-Channel - Depletion, 3-Pin TO-92, Pb-Free, Bulk Box; Manufacturer: On Semiconductor; PartNumber: J309G; Channel Polarity: N Channel; IDSS Max (uA): 30000; IDSS Min (uA): 12000; V(BR)GSS Min (V): 25; DatasheetVersion: Rev. 1; PackageVersion: Rev. AM; PackageReference: TO-92-3-29-11_AM_SL; PackageDescription: 3-Pin Transistor Outline, Body 4.825 x 3.685 mm, Pitch 1.27 mm; Supplier 1: Digi-Key; Supplier Part Number 1: J309G-ND; Supplier 2: Mouser; Supplier Part Number 2: 863-J309G; Packing: Bulk Box; RoHS: Pb-Free; Mounting Technology: Through Hole; ComponentLink1Description: Manufacturer URL; ComponentLink1URL: http://www.onsemi.com/; ComponentLink2Description: Datasheet; ComponentLink2URL: http://www.onsemi.com/pub_link/Collateral/J309-D.PDF; ComponentLink3Description: Package Specification; ComponentLink3URL: http://www.onsemi.cn/pub_link/Collateral/2N6426-D.PDF
footprint ONSC-TO-92-3-29-11 (TO, 3-Leads, Body Dia 4.7mm, Pitch 1.27mm)
pins: 1 D, 2 S, 3 G

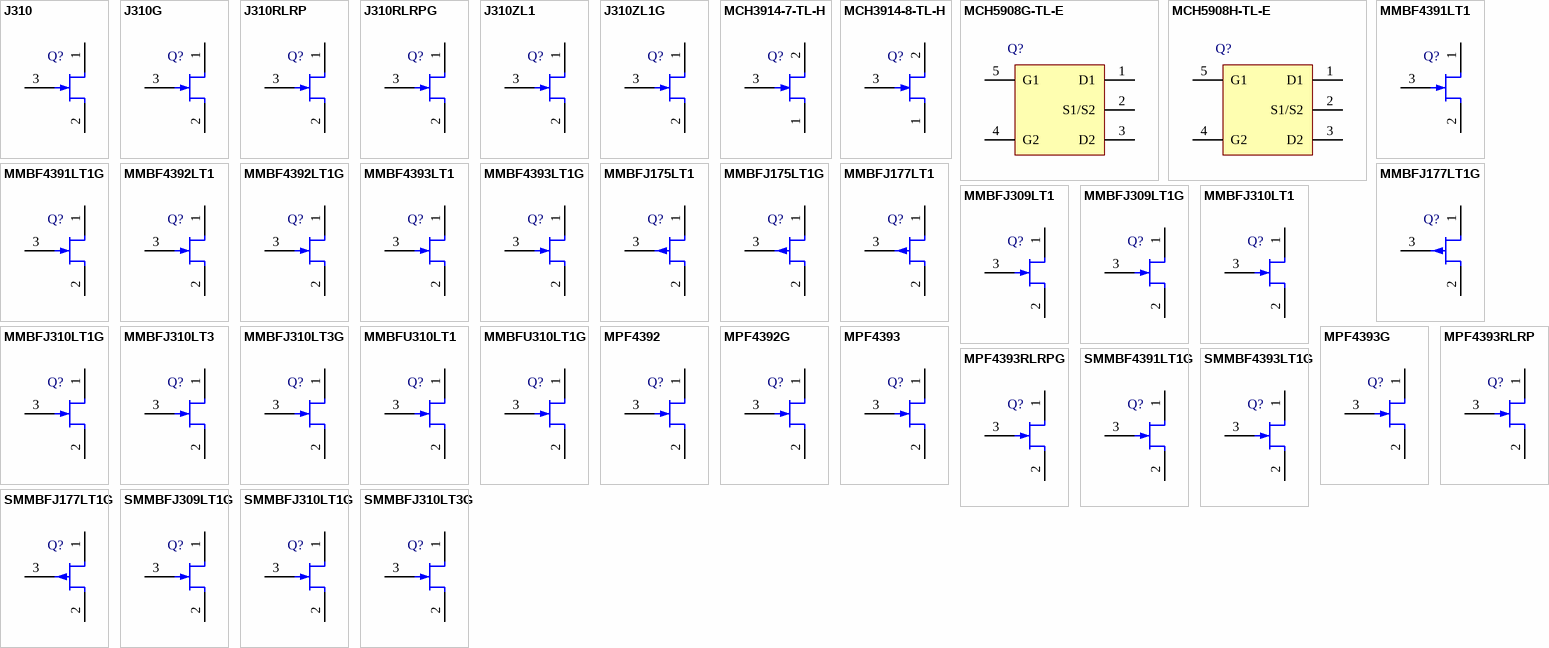
[diagram p1: symbols J310 to SMMBFJ310LT3G]

## J310
designator Q?
JFET VHF / UHF Amplifier, N-Channel - Depletion, 3-Pin TO-92, Bulk Box; Manufacturer: On Semiconductor; PartNumber: J310; Channel Polarity: N Channel; IDSS Max (uA): 60000; IDSS Min (uA): 24000; V(BR)GSS Min (V): 25; DatasheetVersion: Rev. 1; PackageVersion: Rev. AM; PackageReference: TO-92-3-29-11_AM_SL; PackageDescription: 3-Pin Transistor Outline, Body 4.825 x 3.685 mm, Pitch 1.27 mm; Supplier 1: Digi-Key; Supplier Part Number 1: J310OS-ND; Packing: Bulk Box; Mounting Technology: Through Hole; ComponentLink1Description: Manufacturer URL; ComponentLink1URL: http://www.onsemi.com/; ComponentLink2Description: Datasheet; ComponentLink2URL: http://www.onsemi.com/pub_link/Collateral/J309-D.PDF; ComponentLink3Description: Package Specification; ComponentLink3URL: http://www.onsemi.cn/pub_link/Collateral/2N6426-D.PDF
footprint ONSC-TO-92-3-29-11 (TO, 3-Leads, Body Dia 4.7mm, Pitch 1.27mm)
pins: 1 D, 2 S, 3 G

## J310G
designator Q?
JFET VHF / UHF Amplifier, N-Channel - Depletion, 3-Pin TO-92, Pb-Free, Bulk Box; Manufacturer: On Semiconductor; PartNumber: J310G; Channel Polarity: N Channel; IDSS Max (uA): 60000; IDSS Min (uA): 24000; V(BR)GSS Min (V): 25; DatasheetVersion: Rev. 1; PackageVersion: Rev. AM; PackageReference: TO-92-3-29-11_AM_SL; PackageDescription: 3-Pin Transistor Outline, Body 4.825 x 3.685 mm, Pitch 1.27 mm; Supplier 1: Digi-Key; Supplier Part Number 1: J310GOS-ND; Supplier 2: Farnell; Supplier Part Number 2: 1364035; Supplier 3: Newark; Supplier Part Number 3: 26K3593; Supplier 4: Mouser; Supplier Part Number 4: 863-J310G; Packing: Bulk Box; RoHS: Pb-Free; Mounting Technology: Through Hole; ComponentLink1Description: Manufacturer URL; ComponentLink1URL: http://www.onsemi.com/; ComponentLink2Description: Datasheet; ComponentLink2URL: http://www.onsemi.com/pub_link/Collateral/J309-D.PDF; ComponentLink3Description: Package Specification; ComponentLink3URL: http://www.onsemi.cn/pub_link/Collateral/2N6426-D.PDF
footprint ONSC-TO-92-3-29-11 (TO, 3-Leads, Body Dia 4.7mm, Pitch 1.27mm)
pins: 1 D, 2 S, 3 G

## J310RLRP
designator Q?
JFET VHF / UHF Amplifier, N-Channel - Depletion, 3-Pin TO-92, Fan-Fold; Manufacturer: On Semiconductor; PartNumber: J310RLRP; Channel Polarity: N Channel; IDSS Max (uA): 60000; IDSS Min (uA): 24000; V(BR)GSS Min (V): 25; DatasheetVersion: Rev. 1; PackageVersion: Rev. AM; PackageReference: TO-92-3-29-11_AM_SL; PackageDescription: 3-Pin Transistor Outline, Body 4.825 x 3.685 mm, Pitch 1.27 mm; Supplier 1: Digi-Key; Supplier Part Number 1: J310RLRP-ND; Supplier 2: Mouser; Supplier Part Number 2: 863-J310RLRP; Packing: Fan-Fold; Mounting Technology: Through Hole; ComponentLink1Description: Manufacturer URL; ComponentLink1URL: http://www.onsemi.com/; ComponentLink2Description: Datasheet; ComponentLink2URL: http://www.onsemi.com/pub_link/Collateral/J309-D.PDF; ComponentLink3Description: Package Specification; ComponentLink3URL: http://www.onsemi.cn/pub_link/Collateral/2N6426-D.PDF
footprint ONSC-TO-92-3-29-11 (TO, 3-Leads, Body Dia 4.7mm, Pitch 1.27mm)
pins: 1 D, 2 S, 3 G

## J310RLRPG
designator Q?
JFET VHF / UHF Amplifier, N-Channel - Depletion, 3-Pin TO-92, Pb-Free, Fan-Fold; Manufacturer: On Semiconductor; PartNumber: J310RLRPG; Channel Polarity: N Channel; IDSS Max (uA): 60000; IDSS Min (uA): 24000; V(BR)GSS Min (V): 25; DatasheetVersion: Rev. 1; PackageVersion: Rev. AM; PackageReference: TO-92-3-29-11_AM_SL; PackageDescription: 3-Pin Transistor Outline, Body 4.825 x 3.685 mm, Pitch 1.27 mm; Supplier 1: Digi-Key; Supplier Part Number 1: J310RLRPG-ND; Supplier 2: Mouser; Supplier Part Number 2: 863-J310RLRPG; Packing: Fan-Fold; RoHS: Pb-Free; Mounting Technology: Through Hole; ComponentLink1Description: Manufacturer URL; ComponentLink1URL: http://www.onsemi.com/; ComponentLink2Description: Datasheet; ComponentLink2URL: http://www.onsemi.com/pub_link/Collateral/J309-D.PDF; ComponentLink3Description: Package Specification; ComponentLink3URL: http://www.onsemi.cn/pub_link/Collateral/2N6426-D.PDF
footprint ONSC-TO-92-3-29-11 (TO, 3-Leads, Body Dia 4.7mm, Pitch 1.27mm)
pins: 1 D, 2 S, 3 G

## J310ZL1
designator Q?
JFET VHF / UHF Amplifier, N-Channel - Depletion, 3-Pin TO-92, Fan-Fold; Manufacturer: On Semiconductor; PartNumber: J310ZL1; Channel Polarity: N Channel; IDSS Max (uA): 60000; IDSS Min (uA): 24000; V(BR)GSS Min (V): 25; DatasheetVersion: Rev. 1; PackageVersion: Rev. AM; PackageReference: TO-92-3-29-11_AM_SL; PackageDescription: 3-Pin Transistor Outline, Body 4.825 x 3.685 mm, Pitch 1.27 mm; Supplier 1: Mouser; Supplier Part Number 1: 863-J310ZL1; Packing: Fan-Fold; Mounting Technology: Through Hole; ComponentLink1Description: Manufacturer URL; ComponentLink1URL: http://www.onsemi.com/; ComponentLink2Description: Datasheet; ComponentLink2URL: http://www.onsemi.com/pub_link/Collateral/J309-D.PDF; ComponentLink3Description: Package Specification; ComponentLink3URL: http://www.onsemi.cn/pub_link/Collateral/2N6426-D.PDF
footprint ONSC-TO-92-3-29-11 (TO, 3-Leads, Body Dia 4.7mm, Pitch 1.27mm)
pins: 1 D, 2 S, 3 G

## J310ZL1G
designator Q?
JFET VHF / UHF Amplifier, N-Channel - Depletion, 3-Pin TO-92, Pb-Free, Fan-Fold; Manufacturer: On Semiconductor; PartNumber: J310ZL1G; Channel Polarity: N Channel; IDSS Max (uA): 60000; IDSS Min (uA): 24000; V(BR)GSS Min (V): 25; DatasheetVersion: Rev. 1; PackageVersion: Rev. AM; PackageReference: TO-92-3-29-11_AM_SL; PackageDescription: 3-Pin Transistor Outline, Body 4.825 x 3.685 mm, Pitch 1.27 mm; Supplier 1: Digi-Key; Supplier Part Number 1: J310ZL1G-ND; Supplier 2: Mouser; Supplier Part Number 2: 863-J310ZL1G; Packing: Fan-Fold; RoHS: Pb-Free; Mounting Technology: Through Hole; ComponentLink1Description: Manufacturer URL; ComponentLink1URL: http://www.onsemi.com/; ComponentLink2Description: Datasheet; ComponentLink2URL: http://www.onsemi.com/pub_link/Collateral/J309-D.PDF; ComponentLink3Description: Package Specification; ComponentLink3URL: http://www.onsemi.cn/pub_link/Collateral/2N6426-D.PDF
footprint ONSC-TO-92-3-29-11 (TO, 3-Leads, Body Dia 4.7mm, Pitch 1.27mm)
pins: 1 D, 2 S, 3 G

## MCH3914-7-TL-H
designator Q?
N-Channel JFET, 15 V, 16 to 32 mA, 29 mS, 3-Pin MCPH, Pb-Free, Tape and Reel; Manufacturer: On Semiconductor; PartNumber: MCH3914-7-TL-H; Channel Polarity: N Channel; IDSS Max (uA): 32000; IDSS Min (uA): 16000; PackageReference: MCPH-3; PackageDescription: 3-Pin Small Outline Transistor, Body 2 x 1.6 mm, Pitch 0.65 mm; Supplier 1: Digi-Key; Supplier Part Number 1: MCH3914-7-TL-H-ND; Supplier 2: Newark; Supplier Part Number 2: 07W7073; Supplier 3: Mouser; Supplier Part Number 3: 863-MCH3914-7-TL-H; Packing: Tape and Reel; RoHS: Pb-Free; Mounting Technology: Surface Mount; ComponentLink1Description: Manufacturer URL; ComponentLink1URL: http://www.onsemi.com/; ComponentLink2Description: Datasheet; ComponentLink2URL: http://www.onsemi.com/pub_link/Collateral/ENA1511-D.PDF; ComponentLink3Description: Package Specification; ComponentLink3URL: http://www.onsemi.com/pub_link/Collateral/EN7354-D.PDF
footprint ONSC-MCPH-3_V (SOT23, 3-Leads, Body 2x1.6mm, Pitch 0.65mm)
pins: 1 S, 2 D, 3 G

## MCH3914-8-TL-H
designator Q?
N-Channel JFET, 15 V, 25 to 50 mA, 29 mS, 3-Pin MCPH, Pb-Free, Tape and Reel; Manufacturer: On Semiconductor; PartNumber: MCH3914-8-TL-H; Channel Polarity: N Channel; IDSS Max (uA): 50000; IDSS Min (uA): 25000; PackageReference: MCPH-3; PackageDescription: 3-Pin Small Outline Transistor, Body 2 x 1.6 mm, Pitch 0.65 mm; Supplier 1: Digi-Key; Supplier Part Number 1: MCH3914-8-TL-H-ND; Supplier 2: Mouser; Supplier Part Number 2: 863-MCH3914-8-TL-H; Packing: Tape and Reel; RoHS: Pb-Free; Mounting Technology: Surface Mount; ComponentLink1Description: Manufacturer URL; ComponentLink1URL: http://www.onsemi.com/; ComponentLink2Description: Datasheet; ComponentLink2URL: http://www.onsemi.com/pub_link/Collateral/ENA1511-D.PDF; ComponentLink3Description: Package Specification; ComponentLink3URL: http://www.onsemi.com/pub_link/Collateral/EN7354-D.PDF
footprint ONSC-MCPH-3_V (SOT23, 3-Leads, Body 2x1.6mm, Pitch 0.65mm)
pins: 1 S, 2 D, 3 G

## MCH5908G-TL-E
designator Q?
N-Channel JFET, 15 V, 10 to 20 mA, 35 mS, 5-Pin MCPH, Pb-Free, Tape and Reel; Manufacturer: On Semiconductor; PartNumber: MCH5908G-TL-E; Channel Polarity: N Channel; IDSS Max (uA): 20000; IDSS Min (uA): 10000; V(BR)GSS Min (V): 15; PackageReference: MCPH-5; PackageDescription: 5-Pin Small Outline Transistor, Body 2 x 1.6 mm, Pitch 0.65 mm; Supplier 1: Digi-Key; Supplier Part Number 1: MCH5908G-TL-E-ND; Supplier 2: Mouser; Supplier Part Number 2: 863-MCH5908G-TL-E; Packing: Tape and Reel; RoHS: Pb-Free; Mounting Technology: Surface Mount; ComponentLink1Description: Manufacturer URL; ComponentLink1URL: http://www.onsemi.com/; ComponentLink2Description: Datasheet; ComponentLink2URL: http://www.onsemi.com/pub_link/Collateral/ENA1218-D.PDF; ComponentLink3Description: Package Specification; ComponentLink3URL: http://www.onsemi.com/pub_link/Collateral/ENA1218-D.PDF
footprint ONSC-MCPH-5_V (SOT23, 5-Leads, Body 2x1.6mm, Pitch 0.65mm)
pins: 1 D1, 2 S1/S2, 3 D2, 4 G2, 5 G1